# EAGLE library part SILABS_C2_DBG (library MakBit)
SiLabs C2 Debug Adapter 2x5 pin header
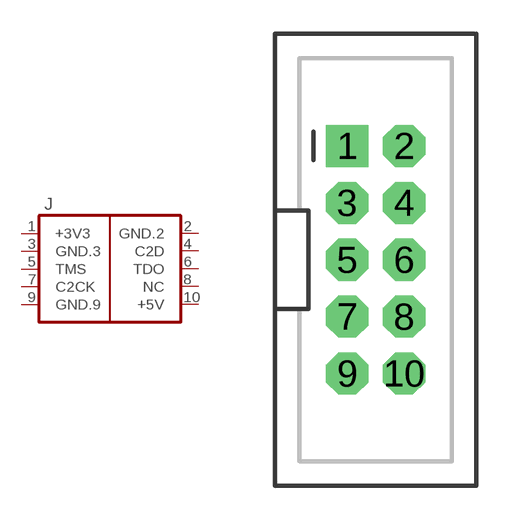
[diagram p5: symbol with the pads of PINH-2X5-SHROUDED; footprint PINH-2X5-SHROUDED]

Designator prefix J

## SILABS_C2_DBG  [PINH-2X5-SHROUDED]
1  +3V3  pwr
2  GND.2  pwr
3  GND.3  pwr
4  C2D
5  TMS
6  TDO
7  C2CK
8  NC  nc
9  GND.9  pwr
10  +5V  pwr

## Footprint PINH-2X5-SHROUDED (pad centres in mm)
drill 1.016 pad 1.88 square: 1 -1.27,5.08
drill 1.016 pad 1.88 octagon: 2 1.27,5.08; 3 -1.27,2.54; 4 1.27,2.54; 5 -1.27,0; 6 1.27,0; 7 -1.27,-2.54; 8 1.27,-2.54; 9 -1.27,-5.08; 10 1.27,-5.08